# Altium schematic symbol library BAS70KFILM.SchLib: 1 symbol
Pins are listed as number, name and electrical type; pins without a type are passive.

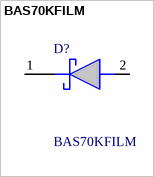
[diagram p0: symbol BAS70KFILM]

## BAS70KFILM
designator D?
STMicroelectronics BAS70KFILM, SMT Schottky Diode, 70V 70mA, 2-Pin SOD-523; Geometry.Height: 0.7mm; Manufacturer_Name: STMicroelectronics; Manufacturer_Part_Number: BAS70KFILM; Mouser Part Number: 511-BAS70KFILM; Mouser Price/Stock: https://www.mouser.co.uk/ProductDetail/STMicroelectronics/BAS70KFILM?qs=jZi1jxfVU95GtldeDT2NyQ%3D%3D; Arrow Part Number: BAS70KFILM; Arrow Price/Stock: https://www.arrow.com/en/products/bas70kfilm/stmicroelectronics?region=nac; Datasheet Link: https://www.st.com/resource/en/datasheet/bas70.pdf
footprint SODFL1608X70N
pins: 1 K, 2 A